# Altium schematic symbol library GENERIC_L_CM.SchLib: 1 symbol
Pins are listed as number, name and electrical type; pins without a type are passive.

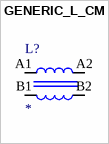
[diagram p0: symbol GENERIC_L_CM]

## GENERIC_L_CM
designator L?
pins: A1, A2, B1, B2